# Altium integrated library NJG1684ME2-TE1.IntLib: 1 symbol
Pins are listed as number, name and electrical type; pins without a type are passive.

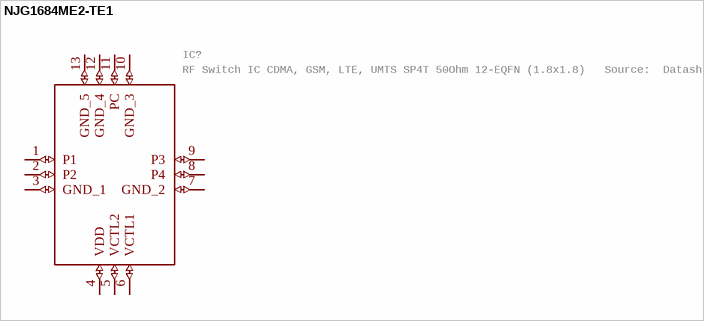
[diagram p0: symbol NJG1684ME2-TE1]

## NJG1684ME2-TE1
designator IC?, comment RF Switch IC CDMA, GSM, LTE, UMTS SP4T 50Ohm 12-EQFN (1.8x1.8)   Source:  Datasheet
Manufacturer_Name: Nisshinbo; GateName_1: G$1; SymbolName_1: NJG1684ME2-TE1; LibraryName: NJG1684ME2-TE1; DeviceSetName: NJG1684ME2-TE1; Package: QFN40P180X180X43-13N; Mouser_Part_Number: 513-NJG1684ME2-TE1; Mouser_Price-Stock: https://www.mouser.co.uk/ProductDetail/Nisshinbo/NJG1684ME2-TE1?qs=chTDxNqvsymdJZJqSy5VSg%3D%3D; Manufacturer_Part_Number: NJG1684ME2-TE1; Description: RF Switch IC CDMA, GSM, LTE, UMTS SP4T 50Ohm 12-EQFN (1.8x1.8); Height: 0.427mm
footprint QFN40P180X180X43-13N
pins: 1 P1 (io), 2 P2 (io), 3 GND_1 (io), 4 VDD (io), 5 VCTL2 (io), 6 VCTL1 (io), 7 GND_2 (io), 8 P4 (io), 9 P3 (io), 10 GND_3 (io), 11 PC (io), 12 GND_4 (io), 13 GND_5 (io)